# Altium schematic symbol library Inductor.SchLib: 1 symbol
Pins are listed as number, name and electrical type; pins without a type are passive.

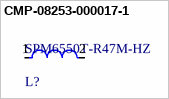
[diagram p0: symbol CMP-08253-000017-1]

## CMP-08253-000017-1
designator L?, comment SPM6550T-R47M-HZ
FIX IND 470NH 26.1A 2.97MOHM SMD; Manufacturer: TDK; Core Material: Metal; Shielding: true; Series Resistance: 2.97mΩ; Test Frequency: 100kHz; Rms Current: 20.5A; Automotive Grade: Grade 1; Tolerance: 20%; Standoff Height: 0.15mm; Lead Free: Yes; Manufacturer Part Number: SPM6550T-R47M-HZ; Automotive: Yes; ComponentLink2URL: https://product.tdk.com/info/en/catalog/datasheets/inductor_automotive_power_spm6550-hz_en.pdf; Temperature Range High: +125°C; Inductance: 470nH; Category: Ind; Height: 5mm; Device Class L2: Inductors; Device Class L3: Fixed Inductors; Temperature Range Low: -40°C; RoHS: TRUE; Temperature: -40°C to +125°C; ComponentLink2Description: Datasheet; Device Class L1: Passive Components; Package: SPM6550; Saturation Current: 20.5A; Digikey Description: FIX IND 470NH 26.1A 2.97MOHM SMD; Composition: Wirewound; Octopart: https://octopart.com/spm6550t-r47m-hz-tdk-90326484; Value: 470nH
footprint FP-SPM6550-MFG
pins: 1, 2